# EAGLE library part LRTB_GVTG (library LRTB_GVTG)
Osram Opto LRTB GVTG 3 RGB LED, 476 (Blue) nm, 546 (Green) nm, 631 (Red) nm PLCC Diffused, Rectangle Lens SMD package Source: Datasheet <http://www.osram-os.com/Graphics/XPic9/00134830_0.pdf>
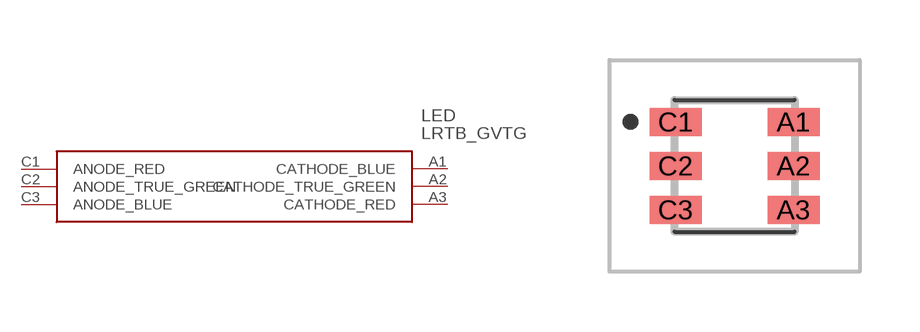
[diagram p0: symbol with the pads of LRTBGVTG; footprint LRTBGVTG]

Designator prefix LED

## LRTB_GVTG (Description: Osram Opto LRTB GVTG 3 RGB LED, 476 (Blue) nm, 546 (Green) nm, 631 (Red) nm PLCC Diffused, Rectangle Lens SMD package; Height: 2mm; Manufacturer_Name: OSRAM; Manufacturer_Part_Number: LRTB GVTG; Mouser_Part_Number: 720-LRTBGVTGU5V51A5B; Mouser_Price-Stock: https://www.mouser.com/Search/Refine.aspx?Keyword=720-LRTBGVTGU5V51A5B; RS_Part_Number: 9154803P; RS_Price-Stock: http://uk.rs-online.com/web/p/products/9154803P)  [LRTBGVTG]
A1  CATHODE_BLUE
A2  CATHODE_TRUE_GREEN
A3  CATHODE_RED
C1  ANODE_RED
C2  ANODE_TRUE_GREEN
C3  ANODE_BLUE

## Footprint LRTBGVTG (pad centres in mm)
LRTB GVTG
smd 1.3 x 0.7: A1 1.475,1.1; A2 1.475,0; A3 1.475,-1.1; C1 -1.475,1.1; C2 -1.475,0; C3 -1.475,-1.1